# EAGLE library part SPRING_TB_RT3 (library srg)
Spring Loaded Terminal Block 4UCON 0.10 pitch right angle 2 amps 20-26 AWG Adafruit: P/N 1074 <http://www.adafruit.com/products/1074> Terminal block comes with 3 terminals, but the are modular so you can add or remove terminals
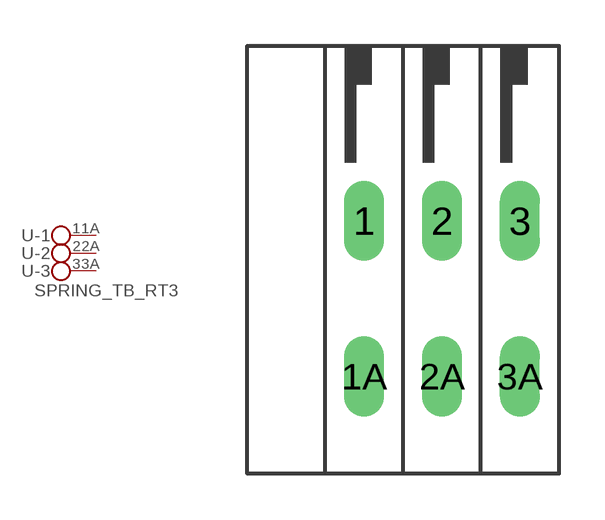
[diagram p3: symbol with the pads of SPRING_TB_RT3; footprint SPRING_TB_RT3]

Designator prefix -; gates -1=KL2 -2=KL2 -3=KL2V

## SPRING_TB_RT3  [SPRING_TB_RT3]
1  -1:1  pas
1A  -1:2  pas
2  -2:1  pas
2A  -2:2  pas
3  -3:1  pas
3A  -3:2  pas

## Footprint SPRING_TB_RT3 (pad centres in mm)
Spring Loaded Terminal Block 4UCON 0.10 pitch right angle 2 amps 20-26 AWG Adafruit: P/N 1074 <http://www.adafruit.com/products/1074> Terminal block comes with 3 terminals, but the are modular so you can add or remove terminals
drill 0.8 long: 1 -2.54,2.54; 1A -2.54,-2.54; 2 0,2.54; 2A 0,-2.54; 3 2.54,2.54; 3A 2.54,-2.54